# Altium schematic symbol library C54102278.SchLib: 1 symbol
Pins are listed as number, name and electrical type; pins without a type are passive.

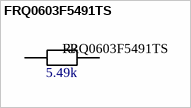
[diagram p0: symbol FRQ0603F5491TS]

## FRQ0603F5491TS
designator R?  value 5.49k
5.49kÎ© 100mW 75V Thick Film Resistor Â±100ppm/â„ƒ Â±1% 0603 Chip Resistor - Surface Mount; Name: C54102278; Source: LCSC
footprint R0603 (6.8k? ±5% 100mW 0603 Thick Film Resistor AEC-Q200)
pins: 1, 2